# Altium footprint library CON5_70543.PcbLib: 1 footprints
Each footprint in its own frame and in the unit in brackets; x right, y up, seen from the top. Pads: shape width x height; smd on the part's side, far side on the other; paste and mask are expansions set on the pad; w line width, h text height; cw(c..) or ccw(c..) is an arc to the next point about the centre after c.
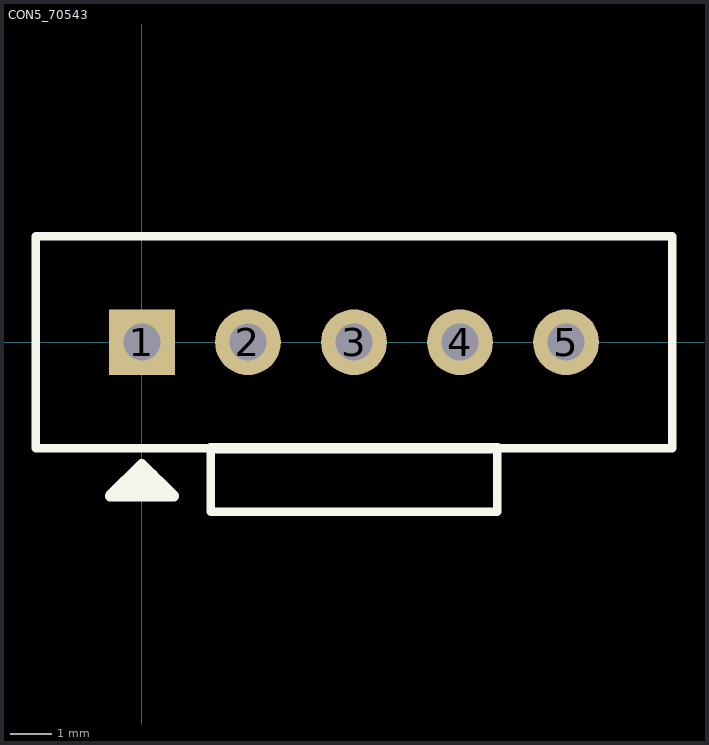
[diagram p0: the footprint, top view; thin cyan lines are the x and y axes]

## CON5_70543 [mil] "Shrouded 5x1 0.1\" pitch"
height 390
pads (5):
  rect 62x62 hole 35: 1(0,0)
  round 62 hole 35: 2(100,0) 3(200,0) 4(300,0) 5(400,0)
TopOverlay:
  lines w8: -100,-100 -100,100 500,100 500,-100 335,-100 335,-160 290,-160 110,-160 65,-160 65,-100 -100,-100
  lines w10: -20,-135 20,-135 ; -10,-125 10,-125 ; 65,-100 335,-100 ; -30,-145 0,-115 30,-145 -30,-145
Mechanical4:
  text ".300" at 0,0 h1
  text ".358" at 0,-1 h1
3D body: height 465.6, standoff -129.4, extent -100.76,-161.58 499.24,98.42